# EAGLE library part 74LVC4245A (library MIDI router parts)
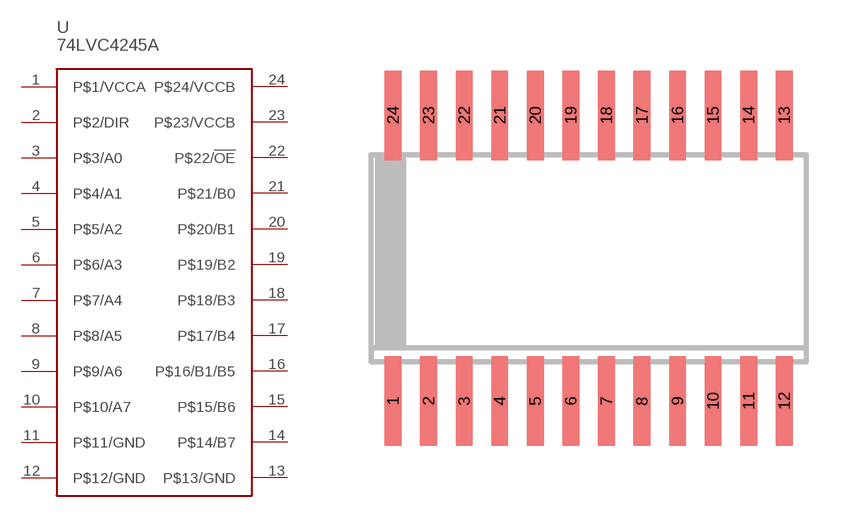
[diagram p15: symbol with the pads of 74LVC4245A-SO24; footprint 74LVC4245A-SO24]

Designator prefix -

## 74LVC4245A  [74LVC4245A-SO24]
1  P$1/VCCA
2  P$2/DIR
3  P$3/A0
4  P$4/A1
5  P$5/A2
6  P$6/A3
7  P$7/A4
8  P$8/A5
9  P$9/A6
10  P$10/A7
11  P$11/GND
12  P$12/GND
13  P$13/GND
14  P$14/B7
15  P$15/B6
16  P$16/B1/B5
17  P$17/B4
18  P$18/B3
19  P$19/B2
20  P$20/B1
21  P$21/B0
22  P$22/!OE
23  P$23/VCCB
24  P$24/VCCB

## Footprint 74LVC4245A-SO24 (pad centres in mm)
SMALL OUTLINE INTEGRATED CIRCUIT wide body 7.5 mm/JEDEC MO-119AB Source: http://www.atmel.com/dyn/resources/prod_documents/doc4126.pdf
smd 0.6 x 3.2: 1 -8.255,-5.1; 2 -6.985,-5.1; 3 -5.715,-5.1; 4 -4.445,-5.1; 5 -3.175,-5.1; 6 -1.905,-5.1; 7 -0.635,-5.1; 8 0.635,-5.1; 9 1.905,-5.1; 10 3.175,-5.1; 11 4.445,-5.1; 12 5.715,-5.1; 13 5.715,5.1; 14 4.445,5.1; 15 3.175,5.1; 16 1.905,5.1; 17 0.635,5.1; 18 -0.635,5.1; 19 -1.905,5.1; 20 -3.175,5.1; 21 -4.445,5.1; 22 -5.715,5.1; 23 -6.985,5.1; 24 -8.255,5.1